# EAGLE library part ESP32_WROOM_32E (library ESP32)
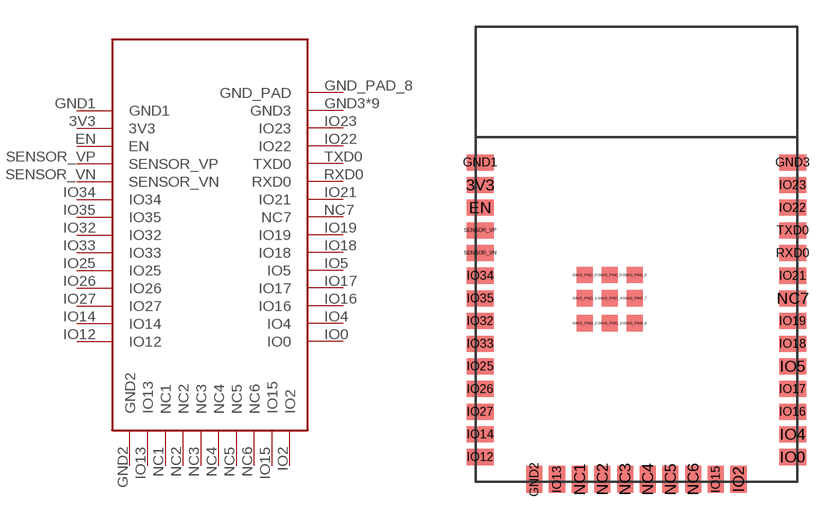
[diagram p0: symbol with the pads of ESP32_WROOM_32; footprint ESP32_WROOM_32]

Designator prefix -

## ESP32_WROOM_32E  [ESP32_WROOM_32]
3V3  3V3
EN  EN
GND1  GND1
GND2  GND2
GND3  GND3
GND_PAD_0  GND3
GND_PAD_1  GND3
GND_PAD_2  GND3
GND_PAD_3  GND3
GND_PAD_4  GND3
GND_PAD_5  GND3
GND_PAD_6  GND3
GND_PAD_7  GND3
GND_PAD_8  GND_PAD
IO0  IO0
IO2  IO2
IO4  IO4
IO5  IO5
IO12  IO12
IO13  IO13
IO14  IO14
IO15  IO15
IO16  IO16
IO17  IO17
IO18  IO18
IO19  IO19
IO21  IO21
IO22  IO22
IO23  IO23
IO25  IO25
IO26  IO26
IO27  IO27
IO32  IO32
IO33  IO33
IO34  IO34
IO35  IO35
NC1  NC1
NC2  NC2
NC3  NC3
NC4  NC4
NC5  NC5
NC6  NC6
NC7  NC7
RXD0  RXD0
SENSOR_VN  SENSOR_VN
SENSOR_VP  SENSOR_VP
TXD0  TXD0

## Footprint ESP32_WROOM_32 (pad centres in mm)
smd 1.5 x 0.9: 3V3 -8.745,16.63; EN -8.745,15.36; GND1 -8.745,17.9; GND3 8.745,17.9; IO0 8.745,1.39; IO4 8.745,2.66; IO5 8.745,6.47; IO12 -8.745,1.39; IO14 -8.745,2.66; IO16 8.745,3.93; IO17 8.745,5.2; IO18 8.745,7.74; IO19 8.745,9.01; IO21 8.745,11.55; IO22 8.745,15.36; IO23 8.745,16.63; IO25 -8.745,6.47; IO26 -8.745,5.2; IO27 -8.745,3.93; IO32 -8.745,9.01; IO33 -8.745,7.74; IO34 -8.745,11.55; IO35 -8.745,10.28; NC7 8.745,10.28; RXD0 8.745,12.82; SENSOR_VN -8.745,12.82; SENSOR_VP -8.745,14.09; TXD0 8.745,14.09
smd 0.9 x 1.5: GND2 -5.715,0.14; IO2 5.715,0.14; IO13 -4.445,0.14; IO15 4.445,0.14; NC1 -3.175,0.14; NC2 -1.905,0.14; NC3 -0.635,0.14; NC4 0.635,0.14; NC5 1.905,0.14; NC6 3.175,0.14
smd 0.9 x 0.9: GND_PAD_0 -2.9,11.59; GND_PAD_1 -2.9,10.29; GND_PAD_2 -2.9,8.89; GND_PAD_3 -1.5,8.89; GND_PAD_4 -1.5,10.29; GND_PAD_5 -1.5,11.59; GND_PAD_6 -0.1,11.59; GND_PAD_7 -0.1,10.29; GND_PAD_8 -0.1,8.89